# EAGLE library part MAX1473 (library DMF-MAX1473)
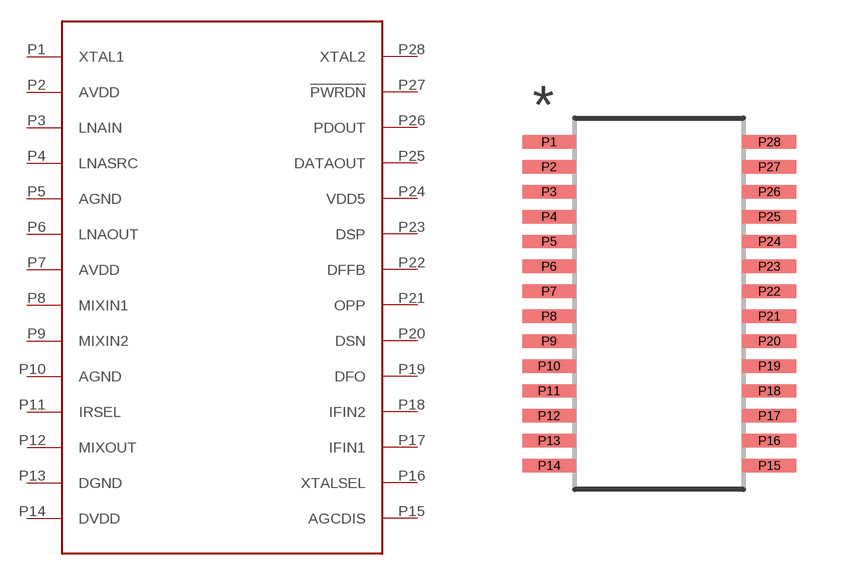
[diagram p0: symbol with the pads of 28TSSOP; footprint 28TSSOP]

Designator prefix U

## MAX1473  [28TSSOP]
P1  XTAL1
P2  AVDD
P3  LNAIN
P4  LNASRC
P5  AGND
P6  LNAOUT
P7  AVDD
P8  MIXIN1
P9  MIXIN2
P10  AGND
P11  IRSEL
P12  MIXOUT
P13  DGND
P14  DVDD
P15  AGCDIS
P16  XTALSEL
P17  IFIN1
P18  IFIN2
P19  DFO
P20  DSN
P21  OPP
P22  DFFB
P23  DSP
P24  VDD5
P25  DATAOUT
P26  PDOUT
P27  !PWRDN
P28  XTAL2

## Footprint 28TSSOP (pad centres in mm)
28 TSSOP Maxim Outline No. 21-0066, Maxim Land Pattern No. 90-0171
smd 1.4 x 0.35: P1 -2.875,4.225; P2 -2.875,3.575; P3 -2.875,2.925; P4 -2.875,2.275; P5 -2.875,1.625; P6 -2.875,0.975; P7 -2.875,0.325; P8 -2.875,-0.325; P9 -2.875,-0.975; P10 -2.875,-1.625; P11 -2.875,-2.275; P12 -2.875,-2.925; P13 -2.875,-3.575; P14 -2.875,-4.225; P15 2.875,-4.225; P16 2.875,-3.575; P17 2.875,-2.925; P18 2.875,-2.275; P19 2.875,-1.625; P20 2.875,-0.975; P21 2.875,-0.325; P22 2.875,0.325; P23 2.875,0.975; P24 2.875,1.626; P25 2.875,2.275; P26 2.875,2.925; P27 2.875,3.575; P28 2.875,4.225